# EAGLE library part ADE7753 (library 0_jc-custom-eagle6)
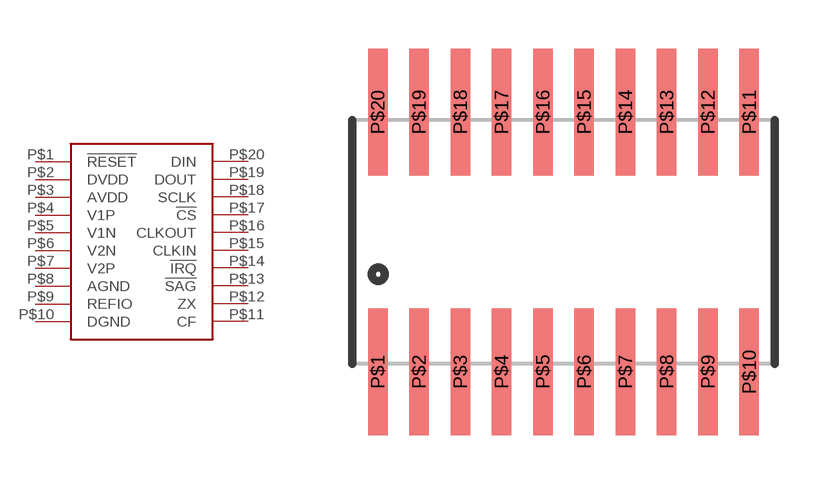
[diagram p12: symbol with the pads of SO20W; footprint SO20W]

Designator prefix -

## ADE7753  [SO20W]
P$1  !RESET
P$2  DVDD
P$3  AVDD
P$4  V1P
P$5  V1N
P$6  V2N
P$7  V2P
P$8  AGND
P$9  REFIO
P$10  DGND
P$11  CF
P$12  ZX
P$13  !SAG
P$14  !IRQ
P$15  CLKIN
P$16  CLKOUT
P$17  !CS
P$18  SCLK
P$19  DOUT
P$20  DIN

## Footprint SO20W (pad centres in mm)
smd 0.6 x 3.9: P$1 -5.715,-4; P$2 -4.445,-4; P$3 -3.175,-4; P$4 -1.905,-4; P$5 -0.635,-4; P$6 0.635,-4; P$7 1.905,-4; P$8 3.175,-4; P$9 4.445,-4; P$10 5.715,-4; P$11 5.715,4; P$12 4.445,4; P$13 3.175,4; P$14 1.905,4; P$15 0.635,4; P$16 -0.635,4; P$17 -1.905,4; P$18 -3.175,4; P$19 -4.445,4; P$20 -5.715,4